# EAGLE library part 218-4LPST (library SamacSys_Parts)
Half Pitch, SMD DIP Switch Source: Datasheet <https://www.ctscorp.com/wp-content/uploads/218.pdf>
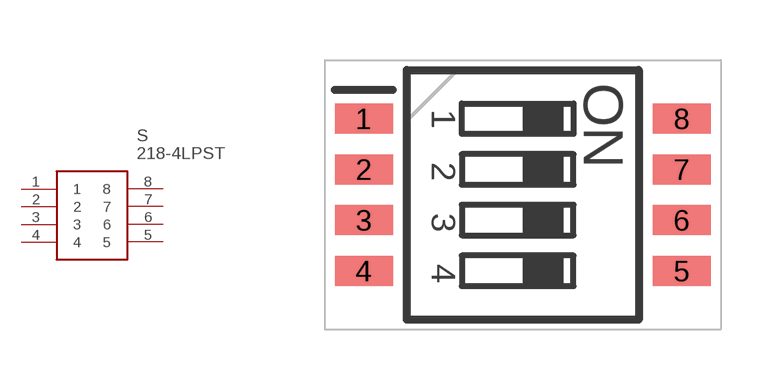
[diagram p143: symbol with the pads of SOIC127P844X265-8N; footprint SOIC127P844X265-8N]

Designator prefix S

## 218-4LPST (DESCRIPTION: Half Pitch, SMD DIP Switch; HEIGHT: 2.65mm; MANUFACTURER_NAME: CTS; MANUFACTURER_PART_NUMBER: 218-4LPST; MOUSER_PART_NUMBER: 774-2184LPST; MOUSER_PRICE-STOCK: https://www.mouser.co.uk/ProductDetail/CTS-Electronic-Components/218-4LPST?qs=qNzHFtQhdJ%252BULzIpw6MWbA%3D%3D)  [SOIC127P844X265-8N]
1  1
2  2
3  3
4  4
5  5
6  6
7  7
8  8

## Footprint SOIC127P844X265-8N (pad centres in mm)
218-4LPST
smd 1.45 x 0.75: 1 -3.975,1.905; 2 -3.975,0.635; 3 -3.975,-0.635; 4 -3.975,-1.905; 5 3.975,-1.905; 6 3.975,-0.635; 7 3.975,0.635; 8 3.975,1.905